# EAGLE library part EK90_6BE6 (library radiotubes)
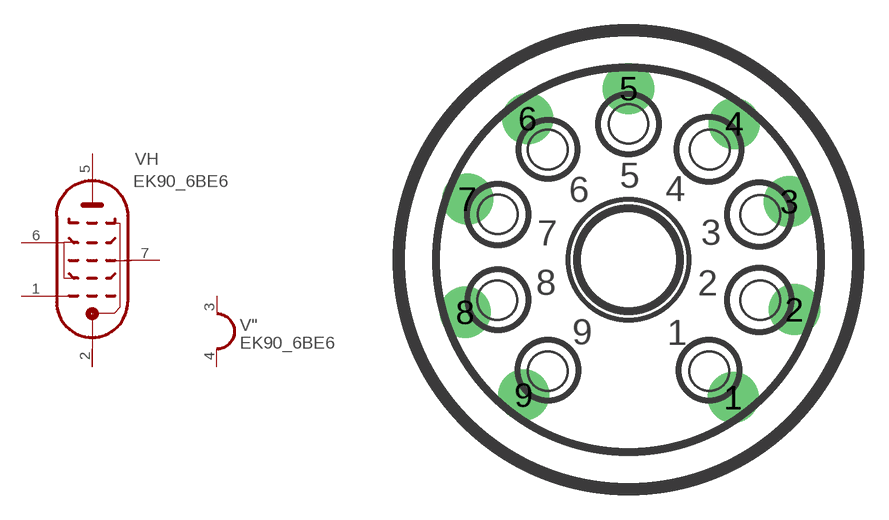
[diagram p100: symbol with the pads of NOVAL; footprint NOVAL]

Designator prefix V; gates H=HEPTODE "=HEATER_1

## EK90_6BE6  [NOVAL]
1  H:HG1  pas
2  H:HK  pas
3  ":H1  pas
4  ":H2  pas
5  H:HA  pas
6  H:HSG  pas
7  H:HG3  pas

## Footprint NOVAL (pad centres in mm)
drill 1.422 pad 2.54: 1 5.207,-6.858; 2 8.254,-2.484; 3 8.004,2.893; 4 5.258,6.77; 5 0,8.524; 6 -5.004,7.024; 7 -8.004,3.02; 8 -8.127,-2.611; 9 -5.207,-6.731